# EAGLE library part MAX30100 (library MAX30100)
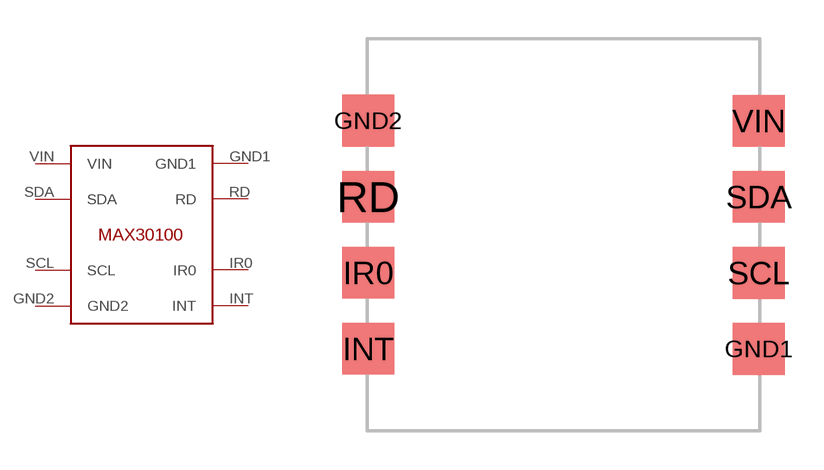
[diagram p0: symbol with the pads of MAX30100; footprint MAX30100]

Designator prefix -

## MAX30100MAX30100  [MAX30100]
GND1  GND1
GND2  GND2
INT  INT
IR0  IR0
RD  RD
SCL  SCL
SDA  SDA
VIN  VIN

## Footprint MAX30100 (pad centres in mm)
smd 2 x 2: GND1 7.544,-4.41; GND2 -7.544,4.416; INT -7.544,-4.404; IR0 -7.544,-1.464; RD -7.544,1.476; SCL 7.544,-1.47; SDA 7.544,1.47; VIN 7.544,4.41